# Altium integrated library Altium Database Library V2.IntLib: 825 symbols (part 37 of 40)

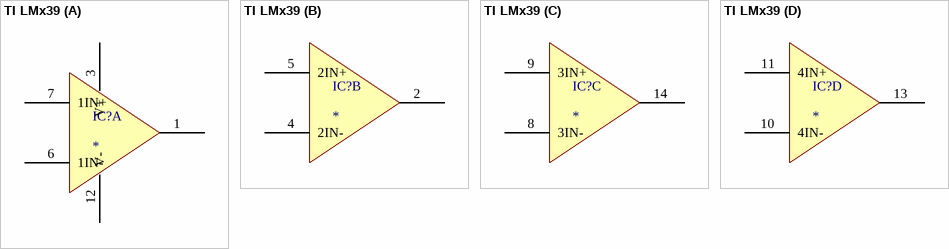
[diagram p748: symbol TI LMx39]

## TI LMx39
designator IC?
part A pins: 1 1OUT, 3 V+ (power), 6 1IN-, 7 1IN+, 12 V- (power)
part B pins: 2 2OUT, 4 2IN-, 5 2IN+
part C pins: 8 3IN-, 9 3IN+, 14 3OUT
part D pins: 10 4IN-, 11 4IN+, 13 4OUT


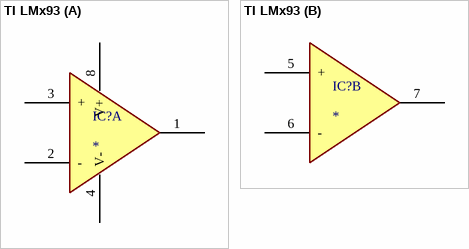
[diagram p749: symbol TI LMx93]

## TI LMx93
designator IC?
part A pins: 1 OUTA, 2 -, 3 +, 4 V-, 8 V+
part B pins: 5 +, 6 -, 7 OUTB


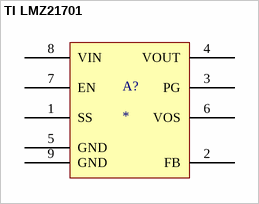
[diagram p750: symbol TI LMZ21701]

## TI LMZ21701
designator A?
pins: 1 SS, 2 FB, 3 PG, 4 VOUT, 5 GND, 6 VOS, 7 EN, 8 VIN, 9 GND


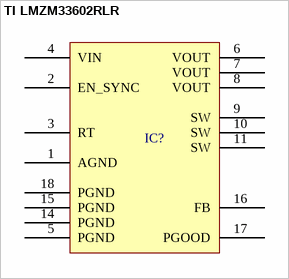
[diagram p751: symbol TI LMZM33602RLR]

## TI LMZM33602RLR
designator IC?  (value not drawn)
pins: 1 AGND, 2 EN_SYNC, 3 RT, 4 VIN, 5 PGND, 6 VOUT, 7 VOUT, 8 VOUT, 9 SW, 10 SW, 11 SW, 14 PGND, 15 PGND, 16 FB, 17 PGOOD, 18 PGND


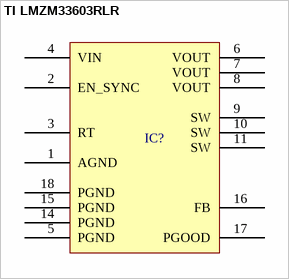
[diagram p752: symbol TI LMZM33603RLR]

## TI LMZM33603RLR
designator IC?  (value not drawn)
pins: 1 AGND, 2 EN_SYNC, 3 RT, 4 VIN, 5 PGND, 6 VOUT, 7 VOUT, 8 VOUT, 9 SW, 10 SW, 11 SW, 14 PGND, 15 PGND, 16 FB, 17 PGOOD, 18 PGND


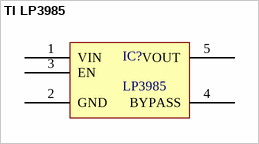
[diagram p753: symbol TI LP3985]

## TI LP3985
designator IC?, comment LP3985
Micropower 150mA Low-Noise Ultra Low-Dropout CMOS Voltage Regulator
pins: 1 VIN, 2 GND, 3 EN, 4 BYPASS, 5 VOUT


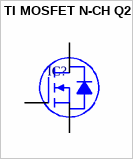
[diagram p754: symbol TI MOSFET N-CH Q2]

## TI MOSFET N-CH Q2
designator IC?
pins: 1 D, 1 5, 1 6, 1 8, 2 D, 3 G, 4 S, 7 S


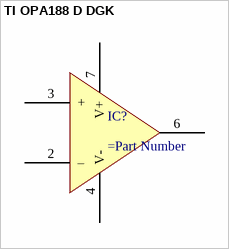
[diagram p755: symbol TI OPA188 D DGK]

## TI OPA188 D DGK
designator IC?
pins: 2 –, 3 +, 4 V-, 6 OUT, 7 V+


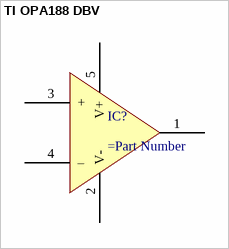
[diagram p756: symbol TI OPA188 DBV]

## TI OPA188 DBV
designator IC?
pins: 1 OUT, 2 V-, 3 +, 4 –, 5 V+


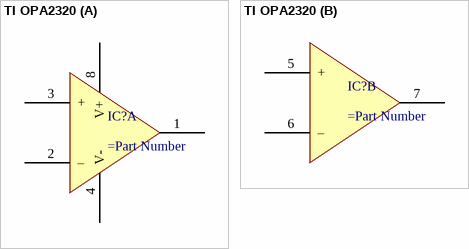
[diagram p757: symbol TI OPA2320]

## TI OPA2320
designator IC?
part A pins: 1 OUT A, 2 –, 3 +, 4 V-, 8 V+
part B pins: 5 +, 6 –, 7 OUT B


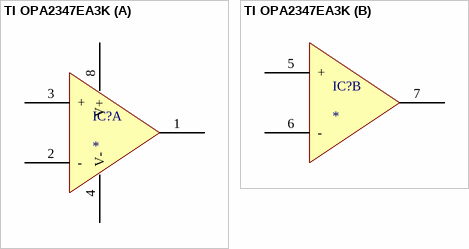
[diagram p758: symbol TI OPA2347EA3K]

## TI OPA2347EA3K
designator IC?
part A pins: 1 OUTA, 2 -, 3 +, 4 V-, 8 V+
part B pins: 5 +, 6 -, 7 OUTB


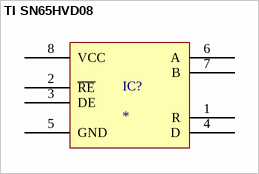
[diagram p759: symbol TI SN65HVD08]

## TI SN65HVD08
designator IC?
pins: 1 R, 2 ~{RE}, 3 DE, 4 D, 5 GND, 6 A, 7 B, 8 VCC


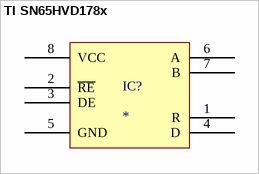
[diagram p760: symbol TI SN65HVD178x]

## TI SN65HVD178x
designator IC?
pins: 1 R, 2 ~{RE}, 3 DE, 4 D, 5 GND, 6 A, 7 B, 8 VCC


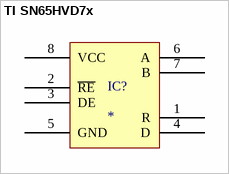
[diagram p761: symbol TI SN65HVD7x]

## TI SN65HVD7x
designator IC?
pins: 1 R, 2 ~{RE}, 3 DE, 4 D, 5 GND, 6 A, 7 B, 8 VCC


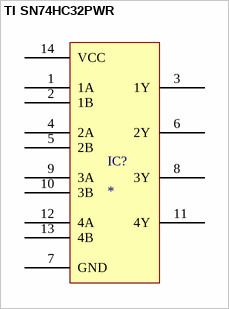
[diagram p762: symbol TI SN74HC32PWR]

## TI SN74HC32PWR
designator IC?
pins: 1 1A, 2 1B, 3 1Y, 4 2A, 5 2B, 6 2Y, 7 GND, 8 3Y, 9 3A, 10 3B, 11 4Y, 12 4A, 13 4B, 14 VCC


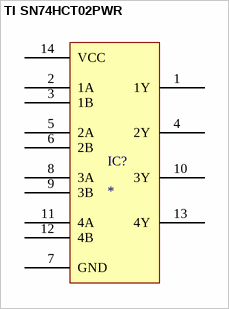
[diagram p763: symbol TI SN74HCT02PWR]

## TI SN74HCT02PWR
designator IC?
pins: 1 1Y, 2 1A, 3 1B, 4 2Y, 5 2A, 6 2B, 7 GND, 8 3A, 9 3B, 10 3Y, 11 4A, 12 4B, 13 4Y, 14 VCC


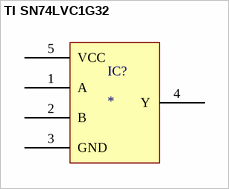
[diagram p764: symbol TI SN74LVC1G32]

## TI SN74LVC1G32
designator IC?
pins: 1 A, 2 B, 3 GND, 4 Y, 5 VCC


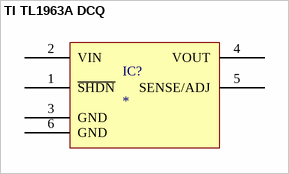
[diagram p765: symbol TI TL1963A DCQ]

## TI TL1963A DCQ
designator IC?
Linear Voltage Regulator IC 1 Output 1.5A
pins: 1 ~{SHDN}, 2 VIN "Desc1", 3 GND "Desc1", 4 VOUT "Desc1", 5 SENSE/ADJ, 6 GND "Desc1"


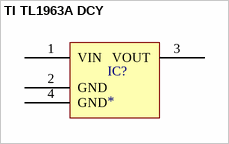
[diagram p766: symbol TI TL1963A DCY]

## TI TL1963A DCY
designator IC?
Linear Voltage Regulator IC 1 Output 1.5A
pins: 1 VIN "Desc1", 2 GND "Desc1", 3 VOUT "Desc1", 4 GND "Desc1"


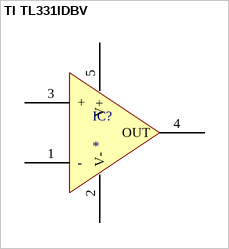
[diagram p767: symbol TI TL331IDBV]

## TI TL331IDBV
designator IC?
pins: 1 -, 2 V- (power), 3 +, 4 OUT, 5 V+ (power)


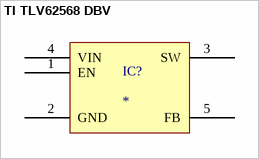
[diagram p768: symbol TI TLV62568 DBV]

## TI TLV62568 DBV
designator IC?
pins: 1 EN, 2 GND, 3 SW, 4 VIN, 5 FB


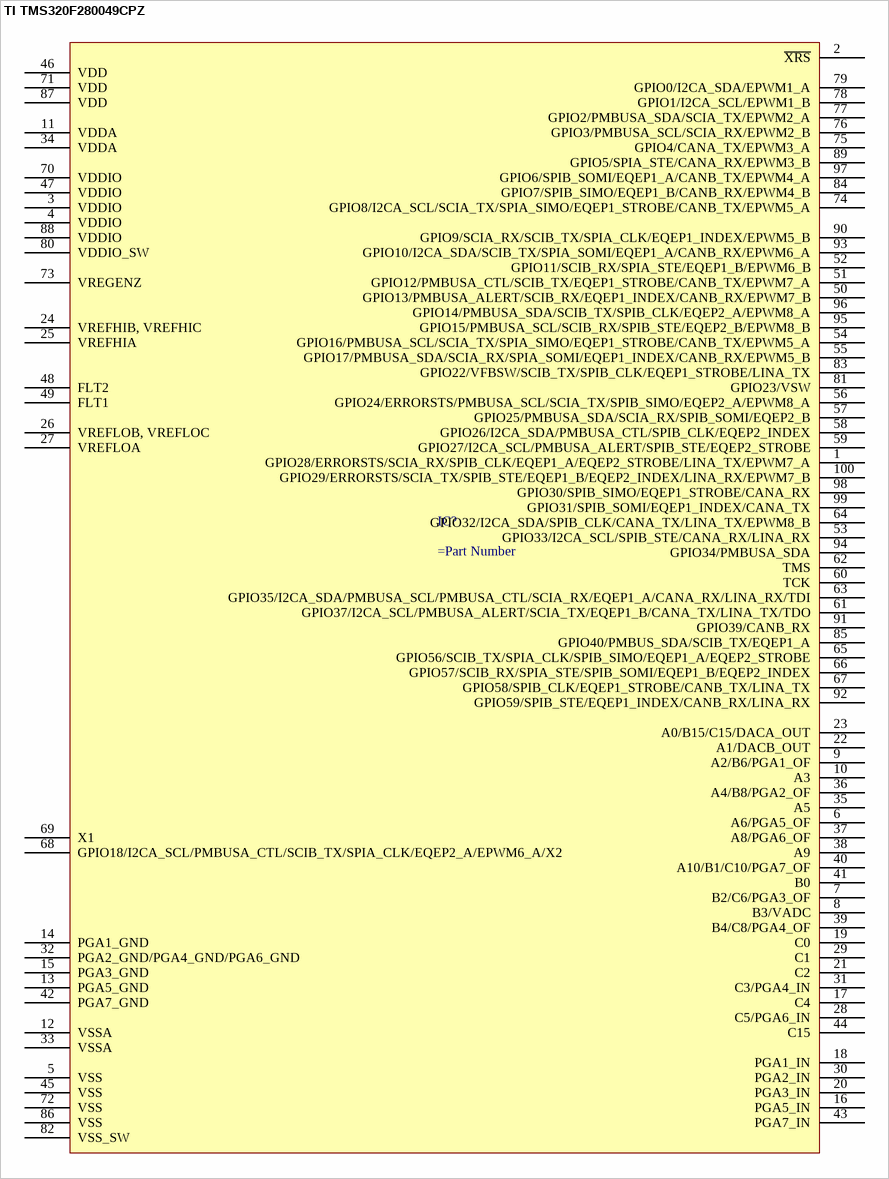
[diagram p769: symbol TI TMS320F280049CPZ]

## TI TMS320F280049CPZ
designator IC?
pins: 1 GPIO28/ERRORSTS/SCIA_RX/SPIB_CLK/EQEP1_A/EQEP2_STROBE/LINA_TX/EPWM7_A, 2 ~{XRS}, 3 VDDIO, 4 VDDIO, 5 VSS, 6 A6/PGA5_OF, 7 B2/C6/PGA3_OF, 8 B3/VADC, 9 A2/B6/PGA1_OF, 10 A3, 11 VDDA, 12 VSSA, 13 PGA5_GND, 14 PGA1_GND, 15 PGA3_GND, 16 PGA5_IN, 17 C4, 18 PGA1_IN, 19 C0, 20 PGA3_IN, 21 C2, 22 A1/DACB_OUT, 23 A0/B15/C15/DACA_OUT, 24 VREFHIB, VREFHIC, 25 VREFHIA, 26 VREFLOB, VREFLOC, 27 VREFLOA, 28 C5/PGA6_IN, 29 C1, 30 PGA2_IN, 31 C3/PGA4_IN, 32 PGA2_GND/PGA4_GND/PGA6_GND, 33 VSSA, 34 VDDA, 35 A5, 36 A4/B8/PGA2_OF, 37 A8/PGA6_OF, 38 A9, 39 B4/C8/PGA4_OF, 40 A10/B1/C10/PGA7_OF, 41 B0, 42 PGA7_GND, 43 PGA7_IN, 44 C15, 45 VSS, 46 VDD, 47 VDDIO, 48 FLT2, 49 FLT1, 50 GPIO13/PMBUSA_ALERT/SCIB_RX/EQEP1_INDEX/CANB_RX/EPWM7_B, 51 GPIO12/PMBUSA_CTL/SCIB_TX/EQEP1_STROBE/CANB_TX/EPWM7_A, 52 GPIO11/SCIB_RX/SPIA_STE/EQEP1_B/EPWM6_B, 53 GPIO33/I2CA_SCL/SPIB_STE/CANA_RX/LINA_RX, 54 GPIO16/PMBUSA_SCL/SCIA_TX/SPIA_SIMO/EQEP1_STROBE/CANB_TX/EPWM5_A, 55 GPIO17/PMBUSA_SDA/SCIA_RX/SPIA_SOMI/EQEP1_INDEX/CANB_RX/EPWM5_B, 56 GPIO24/ERRORSTS/PMBUSA_SCL/SCIA_TX/SPIB_SIMO/EQEP2_A/EPWM8_A, 57 GPIO25/PMBUSA_SDA/SCIA_RX/SPIB_SOMI/EQEP2_B, 58 GPIO26/I2CA_SDA/PMBUSA_CTL/SPIB_CLK/EQEP2_INDEX, 59 GPIO27/I2CA_SCL/PMBUSA_ALERT/SPIB_STE/EQEP2_STROBE, 60 TCK, 61 GPIO37/I2CA_SCL/PMBUSA_ALERT/SCIA_TX/EQEP1_B/CANA_TX/LINA_TX/TDO, 62 TMS, 63 GPIO35/I2CA_SDA/PMBUSA_SCL/PMBUSA_CTL/SCIA_RX/EQEP1_A/CANA_RX/LINA_RX/TDI, 64 GPIO32/I2CA_SDA/SPIB_CLK/CANA_TX/LINA_TX/EPWM8_B, 65 GPIO56/SCIB_TX/SPIA_CLK/SPIB_SIMO/EQEP1_A/EQEP2_STROBE, 66 GPIO57/SCIB_RX/SPIA_STE/SPIB_SOMI/EQEP1_B/EQEP2_INDEX, 67 GPIO58/SPIB_CLK/EQEP1_STROBE/CANB_TX/LINA_TX, 68 GPIO18/I2CA_SCL/PMBUSA_CTL/SCIB_TX/SPIA_CLK/EQEP2_A/EPWM6_A/X2, 69 X1, 70 VDDIO, 71 VDD, 72 VSS, 73 VREGENZ, 74 GPIO8/I2CA_SCL/SCIA_TX/SPIA_SIMO/EQEP1_STROBE/CANB_TX/EPWM5_A, 75 GPIO4/CANA_TX/EPWM3_A, 76 GPIO3/PMBUSA_SCL/SCIA_RX/EPWM2_B, 77 GPIO2/PMBUSA_SDA/SCIA_TX/EPWM2_A, 78 GPIO1/I2CA_SCL/EPWM1_B, 79 GPIO0/I2CA_SDA/EPWM1_A, 80 VDDIO_SW, 81 GPIO23/VSW, 82 VSS_SW, 83 GPIO22/VFBSW/SCIB_TX/SPIB_CLK/EQEP1_STROBE/LINA_TX, 84 GPIO7/SPIB_SIMO/EQEP1_B/CANB_RX/EPWM4_B, 85 GPIO40/PMBUS_SDA/SCIB_TX/EQEP1_A, 86 VSS, 87 VDD, 88 VDDIO, 89 GPIO5/SPIA_STE/CANA_RX/EPWM3_B, 90 GPIO9/SCIA_RX/SCIB_TX/SPIA_CLK/EQEP1_INDEX/EPWM5_B, 91 GPIO39/CANB_RX, 92 GPIO59/SPIB_STE/EQEP1_INDEX/CANB_RX/LINA_RX, 93 GPIO10/I2CA_SDA/SCIB_TX/SPIA_SOMI/EQEP1_A/CANB_RX/EPWM6_A, 94 GPIO34/PMBUSA_SDA, 95 GPIO15/PMBUSA_SCL/SCIB_RX/SPIB_STE/EQEP2_B/EPWM8_B, 96 GPIO14/PMBUSA_SDA/SCIB_TX/SPIB_CLK/EQEP2_A/EPWM8_A, 97 GPIO6/SPIB_SOMI/EQEP1_A/CANB_TX/EPWM4_A, 98 GPIO30/SPIB_SIMO/EQEP1_STROBE/CANA_RX, 99 GPIO31/SPIB_SOMI/EQEP1_INDEX/CANA_TX, 100 GPIO29/ERRORSTS/SCIA_TX/SPIB_STE/EQEP1_B/EQEP2_INDEX/LINA_RX/EPWM7_B


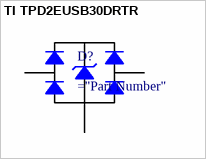
[diagram p770: symbol TI TPD2EUSB30DRTR]

## TI TPD2EUSB30DRTR
designator D?
Rectifier Diode
pins: 1 D+, 2 D-, 3 GND
